# Altium schematic symbol library OSHW_LuxonisMaster_20201223.SchLib: 185 symbols (part 6 of 10)
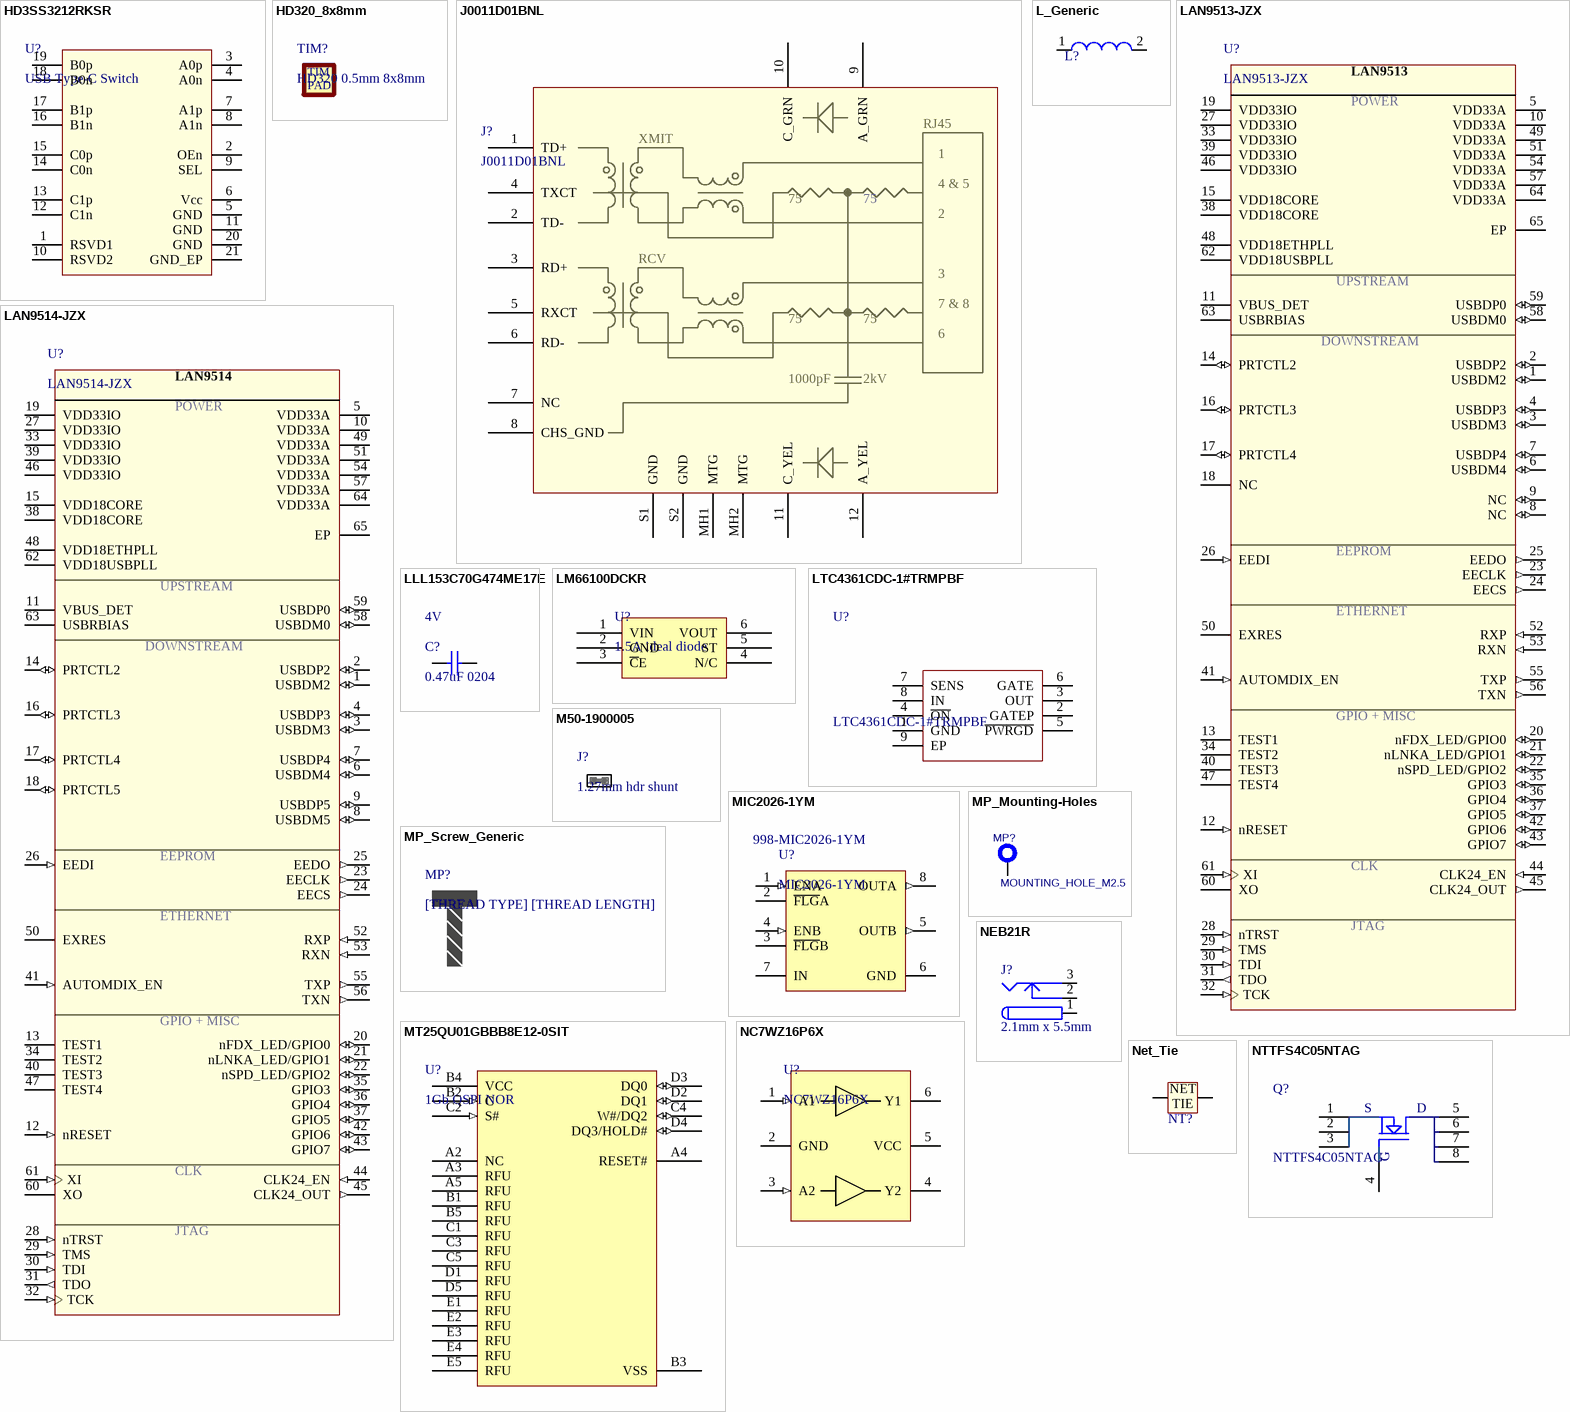
[diagram p12: symbols HD3SS3212RKSR to NTTFS4C05NTAG]

## LAN9514-JZX
designator U?
IC USB 2.0 ETHER CTRLR 64QFN Ethernet Bridge, USB to Ethernet USB 2.0, 10/100 Base-T/TX PHY USB Interface 64-QFN (9x9); Manufacturer 1: Microchip; Operating Supply Current: 288mA; Min Supply Voltage: 3V; Max Supply Voltage: 3.6V; Operating Supply Voltage: 3.3V; Data Rate: 1.5Mbps; Max Power Dissipation: 951mW; Number of Ports: 5; ComponentLink1Description: Manufacturer URL; ComponentLink2Description: Datasheet; ComponentLink2URL: http://ww1.microchip.com/downloads/en/DeviceDoc/9514.pdf; ComponentLink3URL: http://ww1.microchip.com/downloads/en/DeviceDoc/9514.pdf; ComponentLink1URL: www.microchip.com/; ComponentLink3Description: Package Specification; Supplier 1: Digi-Key; Manufacturer Part Number 1: LAN9514-JZX; Stock 1: 4064; Pricing 1: 1=5.71000, 25=4.75880, 100=4.32600 (USD); RoHS: Yes; Case/Package: QFN; Number of Pins: 64; Weight: 0.007277oz; Contact Plating: Tin,Matte; Min Operating Temperature: 0°C; Max Operating Temperature: 70°C; Packaging: Tray; Package Quantity: 260; Interface: USB; Length: 9.1mm; Height: 0.95mm; Width: 9.1mm; Radiation Hardening: No; REACH SVHC: No SVHC; Lead Free: Lead Free; ComponentLink4URL: https://datasheet.ciiva.com/30478/0900766b811a553b-30478372.pdf?src-supplier=RSComponents; ComponentLink4Description: https://datasheet.ciiva.com/30478/0900766b811a553b-30478372.pdf?src-supplier=RSComponents; ComponentLink5URL: https://datasheet.ciiva.com/16372/lan9514-jzx-16372060.pdf?src-supplier=Future+Electronics; ComponentLink5Description: https://datasheet.ciiva.com/16372/lan9514-jzx-16372060.pdf?src-supplier=Future+Electronics; ComponentLink6URL: https://datasheet.ciiva.com/22656/1686386-22656488.pdf?src-supplier=Element14; ComponentLink6Description: https://datasheet.ciiva.com/22656/1686386-22656488.pdf?src-supplier=Element14; ComponentLink7URL: https://datasheet.ciiva.com/29305/651385-da-01-en-ic-e-ctrlr-lan9514-jzx-qfn-64-9x9-mcp-29305397.pdf?src-supplier=Conrad; ComponentLink7Description: https://datasheet.ciiva.com/29305/651385-da-01-en-ic-e-ctrlr-lan9514-jzx-qfn-64-9x9-mcp-29305397.pdf?src-supplier=Conrad; Supplier Part Number 1: 638-1087-ND; Supplier 2: Mouser; Supplier Part Number 2: 886-LAN9514-JZX
footprint LAN951x-JZX (LAN9513 or LAN9514 QFN, 64-Leads, Body 9.1x9.1mm, Pitch 0.5mm, Thermal Pad 7.3x7.3mm)
pins: 1 USBDM2 (io) "Downstream USB peripheral 2 DMINUS signal.", 2 USBDP2 (io) "Downstream USB peripheral 2 DPLUS signal.", 3 USBDM3 (io) "Downstream USB peripheral 3 DMINUS signal.", 4 USBDP3 (io) "Downstream USB peripheral 3 DPLUS signal.", 5 VDD33A (power) "Refer to the LAN9514/LAN9514i reference schematics for connection information.", 6 USBDM4 (io) "Downstream USB peripheral 4 DMINUS signal.", 7 USBDP4 (io) "Downstream USB peripheral 4 DPLUS signal.", 8 USBDM5 (io) "Downstream USB peripheral 5 DMINUS signal.", 9 USBDP5 (io) "Downstream USB peripheral 5 DPLUS signal.", 10 VDD33A (power) "Refer to the LAN9514/LAN9514i reference schematics for connection information.", 11 VBUS_DET (power) "This pin detects the state of the upstream bus power. The Hub monitors VBUS_DET to determine when to assert the USBDP0 pin's internal pull-up resistor (signaling a connect event). For bus powered hubs, this pin must be tied to VDD33IO. For self powered hubs where the device is permanently attached to a host, VBUS_DET should be pulled to VDD33IO. For other self powered applications, refer to the device reference schematic for additional connection information.", 12 nRESET (in) "This active low pin allows external hardware to reset the device.", 13 TEST1 "Used for factory testing, this pin must always be left unconnected.", 14 PRTCTL2 (io) "When used as an output, this pin enables power to downstream USB peripheral 2. When used as an input, this pin is used to sample the output signal from an external current monitor for downstream USB peripheral 2. An overcurrent condition is indicated when the signal is low.", 15 VDD18CORE (power) "1.8 V power from the internal core voltage regulator. All VDD18CORE pins must be tied together for proper operation.", 16 PRTCTL3 (io) "When used as an output, this pin enables power to downstream USB peripheral 3. When used as an input, this pin is used to sample the output signal from an external current monitor for downstream USB peripheral 3. An overcurrent condition is indicated when the signal is low.", 17 PRTCTL4 (io) "When used as an output, this pin enables power to downstream USB peripheral 4. When used as an input, this pin is used to sample the output signal from an external current monitor for downstream USB peripheral 4. An overcurrent condition is indicated when the signal is low.", 18 PRTCTL5 (io) "When used as an output, this pin enables power to downstream USB peripheral 5. When used as an input, this pin is used to sample the output signal from an external current monitor for downstream USB peripheral 5. An overcurrent condition is indicated when the signal is low.", 19 VDD33IO (power) "3.3V Power Supply for I/O Pins. Refer to the LAN9514/LAN9514i reference schematics for connection information.", 20 nFDX_LED/GPIO0 (io), 21 nLNKA_LED/GPIO1 (io), 22 nSPD_LED/GPIO2 (io), 23 EECLK (out) "This pin drives the EEPROM clock of the external EEPROM.", 24 EECS (out) "This pin drives the chip select output of the external EEPROM.", 25 EEDO (out) "This pin drives the EEDI input of the external EEPROM.", 26 EEDI (in) "This pin is driven by the EEDO output of the external EEPROM.", 27 VDD33IO (power) "3.3V Power Supply for I/O Pins. Refer to the LAN9514/LAN9514i reference schematics for connection information.", 28 nTRST (in) "This active low pin functions as the JTAG test port reset input.", 29 TMS (in) "This pin functions as the JTAG test mode select.", 30 TDI (in) "This pin functions as the JTAG data input.", 31 TDO (out) "This pin functions as the JTAG data output.", 32 TCK (in) "This pin functions as the JTAG test clock.", 33 VDD33IO (power) "3.3V Power Supply for I/O Pins. Refer to the LAN9514/LAN9514i reference schematics for connection information.", 34 TEST2 "Used for factory testing, this pin must always be connected to VSS for proper operation.", 35 GPIO3 (io) "This General Purpose I/O pin is fully programmable as either a push-pull output, an open-drain output, or a Schmitt-triggered input.", 36 GPIO4 (io) "This General Purpose I/O pin is fully programmable as either a push-pull output, an open-drain output, or a Schmitt-triggered input.", 37 GPIO5 (io) "This General Purpose I/O pin is fully programmable as either a push-pull output, an open-drain output, or a Schmitt-triggered input.", 38 VDD18CORE (power) "1.8 V power from the internal core voltage regulator. All VDD18CORE pins must be tied together for proper operation. Refer to the LAN9514/LAN9514i referenceschematics for connection information.", 39 VDD33IO (power) "3.3V Power Supply for I/O Pins. Refer to the LAN9514/LAN9514i reference schematics for connection information.", 40 TEST3 "Used for factory testing, this pin must always be connected to VDD33IO for proper operation.", 41 AUTOMDIX_EN (in) "Determines the default Auto-MDIX setting.", 42 GPIO6 (io) "This General Purpose I/O pin is fully programmable as either a push-pull output, an open-drain output, or a Schmitt-triggered input.", 43 GPIO7 (io) "This General Purpose I/O pin is fully programmable as either a push-pull output, an open-drain output, or a Schmitt-triggered input.", 44 CLK24_EN (in) "This pin enables the generation of the 24 MHz clock on the CLK_24_OUT pin.", 45 CLK24_OUT (out) "This pin outputs a 24 MHz clock that can be used a reference clock for a partner hub.", 46 VDD33IO (power) "3.3V Power Supply for I/O Pins. Refer to the LAN9514/LAN9514i reference schematics for connection information.", 47 TEST4 "Used for factory testing, this pin must always be left unconnected.", 48 VDD18ETHPLL (power) "Refer to the LAN9514/LAN9514i reference schematics for additional connection information.", 49 VDD33A (power) "Refer to the LAN9514/LAN9514i reference schematics for connection information.", 50 EXRES "Used for the internal bias circuits. Connect to an external 12.4K 1.0% resistor to ground.", 51 VDD33A (power) "Refer to the LAN9514/LAN9514i reference schematics for connection information.", 52 RXP (in) "Positive input of the Ethernet receiver. The receive data inputs may be swapped internally with transmit data outputs when Auto-MDIX is enabled.", 53 RXN (in) "Negative input of the Ethernet receiver. The receive data inputs may be swapped internally with transmit data outputs when Auto-MDIX is enabled.", 54 VDD33A (power) "Refer to the LAN9514/LAN9514i reference schematics for connection information.", 55 TXP (out) "Positive output of the Ethernet transmitter. The transmit data outputs may be swapped internally with receive data inputs when Auto-MDIX isenabled.", 56 TXN (out) "Negative output of the Ethernet transmitter. The transmit data outputs may be swapped internally with receive data inputs when Auto-MDIX is enabled.", 57 VDD33A (power) "Refer to the LAN9514/LAN9514i reference schematics for connection information.", 58 USBDM0 (io) "Upstream USB DMINUS signal.", 59 USBDP0 (io) "Upstream USB DPLUS signal.", 60 XO "External 25 MHz crystal output.", 61 XI (in) "External 25 MHz crystal input.", 62 VDD18USBPLL (power) "Refer to the LAN9514/LAN9514i reference schematics for additional connection information.", 63 USBRBIAS "Used for setting HS transmit current level and onchip termination impedance. Connect to an external 12K 1.0% resistor to ground.", 64 VDD33A (power) "Refer to the LAN9514/LAN9514i reference schematics for connection information.", 65 EP (power) "Exposed pad must be connected to VSS."
text: LAN9514; POWER; UPSTREAM; DOWNSTREAM; EEPROM; ETHERNET; GPIO + MISC; CLK; JTAG

## LLL153C70G474ME17E
designator C?, comment 0.47uF 0204  Voltage Rating: 4V
CAP CER 0.47UF 4V X7S 0204; Manufacturer 1: Murata; Manufacturer Part Number 1: LLL153C70G474ME17E; Capacitance: 470nF; Tolerance: 20%; Supplier 1: Digi-Key; Stock 1: 249682; Pricing 1: 1=0.20000, 10=0.14200, 100=0.06660, 500=0.04670, 1000=0.03866, 2500=0.03598, 5000=0.03292 (USD); RoHS: Yes; Case/Package: 0204; Case Code (Metric): 0510; Case Code (Imperial): 0204; Min Operating Temperature: -55°C; Max Operating Temperature: 125°C; Packaging: Cut Tape; Dielectric: X7S; Voltage Rating (DC): 4V; Length: 0.5mm; Depth: 1mm; REACH SVHC: No SVHC; Lead Free: Lead Free; ComponentLink1URL: https://datasheet.ciiva.com/7719/1666664-7719213.pdf?src-supplier=Element14; ComponentLink1Description: https://datasheet.ciiva.com/7719/1666664-7719213.pdf?src-supplier=Element14; Supplier 2: Mouser; Supplier Part Number 2: 81-LLL153C70G474ME7E; Supplier Part Number 1: 490-14474-1-ND
footprint CAPC0204(0510)35_L (Chip Capacitor, 2-Leads, Body 0.52x1.00mm, IPC High Density)
footprint CAPC0204(0510)35_M (Chip Capacitor, 2-Leads, Body 0.52x1.00mm, IPC Low Density)
footprint CAPC0204(0510)35_N (Chip Capacitor, 2-Leads, Body 0.52x1.00mm, IPC Medium Density)
pins: 1, 2

## LM66100DCKR
designator U?, comment 1.5A ideal diode
IC OR CTRLR IDEAL DIODE SC70-6; Manufacturer 1: Texas Instruments; Manufacturer Part Number 1: LM66100DCKR; Supplier 1: Digi-Key; RoHS: No; Category: Integrated Circuits (ICs); Stock 1: 8042; Pricing 1: 1=0.41000, 10=0.32900, 25=0.30120, 100=0.20300, 250=0.16800, 500=0.15400, 1000=0.11550 (USD); Supplier 2: Digi-Key; Supplier 3: Mouser; Supplier 4: Arrow; Supplier Part Number 1: 296-53541-1-ND; Supplier Part Number 3: 595-LM66100DCKR; Supplier Part Number 2: 296-53541-2-ND; Supplier Part Number 4: LM66100DCKR
footprint LM66100DCKR (SOT23, 6-Leads, Body 2.00x2.10mm, Pitch 0.65mm, IPC Medium Density)
pins: 1 VIN "Device input", 2 GND "Device ground", 3 ~{C}E "Active-low chip enable. Can be connected to VOUT for reverse current protection. Do not", 4 N/C "Not internally connected, can be tied to GND or left floating.", 5 ST "Active-low open-drain output, pulled low when the chip is disabled. Hi-Z when the chip is", 6 VOUT "Device output"

## LTC4361CDC-1#TRMPBF
designator U?
IC OVERVOLTAGE/CUR PROT 8-DFN Handheld/Mobile Devices PMIC 8-DFN (2x2); Manufacturer 1: Analog Devices / Linear Technology; Min Supply Voltage: 2.5V; Max Supply Voltage: 5.5V; Supplier 1: Digi-Key; Manufacturer Part Number 1: LTC4361CDC-1#TRMPBF; Stock 1: 4205; Pricing 1: 1=3.62000, 25=2.40680, 100=1.99000, 250=1.89048 (USD); RoHS: Yes; Case/Package: DFN; Number of Pins: 8; Min Operating Temperature: 0°C; Max Operating Temperature: 70°C; Package Quantity: 1; Packaging: Tape and Reel; Length: 2mm; REACH SVHC: No SVHC; ComponentLink1URL: https://datasheet.ciiva.com/1569/1441932-1569140.pdf?src-supplier=Farnell; ComponentLink1Description: https://datasheet.ciiva.com/1569/1441932-1569140.pdf?src-supplier=Farnell; ComponentLink2URL: https://datasheet.ciiva.com/1569/1441932-1569141.pdf?src-supplier=Farnell; ComponentLink2Description: https://datasheet.ciiva.com/1569/1441932-1569141.pdf?src-supplier=Farnell; ComponentLink3URL: https://datasheet.ciiva.com/1941/29266-1941719.pdf?src-supplier=Digi-Key; ComponentLink3Description: https://datasheet.ciiva.com/1941/29266-1941719.pdf?src-supplier=Digi-Key; ComponentLink4URL: https://datasheet.ciiva.com/1511/1692593-1511384.pdf?src-supplier=Element14; ComponentLink4Description: https://datasheet.ciiva.com/1511/1692593-1511384.pdf?src-supplier=Element14; ComponentLink5URL: https://datasheet.ciiva.com/1941/29266-1941720.pdf?src-supplier=Digi-Key; ComponentLink5Description: https://datasheet.ciiva.com/1941/29266-1941720.pdf?src-supplier=Digi-Key; ComponentLink6URL: https://datasheet.ciiva.com/1941/29266-1941721.pdf?src-supplier=Digi-Key; ComponentLink6Description: https://datasheet.ciiva.com/1941/29266-1941721.pdf?src-supplier=Digi-Key; Supplier Part Number 1: LTC4361CDC-1#TRMPBFCT-ND
footprint LTC4361CDC-1#TRMPBF (8-WFDFN Exposed Pad)
pins: 1 GND, 2 GATEP, 3 OUT, 4 ~{ON}, 5 ~{PWRGD}, 6 GATE, 7 SENS, 8 IN, 9 EP

## M50-1900005
designator J?, comment 1.27mm hdr shunt
CONN SHUNT 1.27MM BLACK; Manufacturer 1: Harwin; Manufacturer Part Number 1: M50-1900005; Number of Positions: 2; Number of Contacts: 3; Max Current Rating: 1A; Contact Resistance: 20mR; Insulation Resistance: 1R; Voltage Rating: 500V; RoHS: Yes; Contact Plating: Gold; Contact Material: Copper Alloy; Color: Black; Housing Material: Nylon; Housing Color: Black; Min Operating Temperature: -40°C; Max Operating Temperature: 105°C; Package Quantity: 1000; Packaging: Bulk; Number of Rows: 1; Orientation: Straight; Length: 2.5mm; Height: 0.118inch; Radiation Hardening: No; REACH SVHC: No SVHC; Flammability Rating: UL94 V-0; ComponentLink1URL: https://datasheet.ciiva.com/767/m50-19x-767925.pdf?src-supplier=Digi-Key; ComponentLink1Description: https://datasheet.ciiva.com/767/m50-19x-767925.pdf?src-supplier=Digi-Key; ComponentLink2URL: https://datasheet.ciiva.com/1412/1836978-1412124.pdf?src-supplier=Element14; ComponentLink2Description: https://datasheet.ciiva.com/1412/1836978-1412124.pdf?src-supplier=Element14; Supplier 1: Digi-Key; Stock 1: 19754; Pricing 1: 1=0.33000, 10=0.30800, 25=0.26400, 50=0.22440, 100=0.21560, 250=0.19360, 500=0.18480, 1000=0.15400, 2500=0.14080 (USD); Current Rating: 1A; Pitch: 1.27mm; Depth: 3mm; Supplier Part Number 1: 952-1730-ND
footprint M50-1900005 (Shunt for 1.27mm headers)

## MIC2026-1YM
designator U?  Supplier Part Number 2: 998-MIC2026-1YM
IC PW DIST SW DUAL 8SOIC Power Switch/Driver 1:2 N-Channel 500mA 8-SOIC; Manufacturer: Micrel; Manufacturer 1: Microchip Micrel; Supply Voltage - Max: 5.5V; Switch Configuration: USBSwitch; Off Time (Max): 100us; On Resistance (Max): 140mOhms; Supply Current: 20uA; Supply Voltage - Min: 2.7V; On Time (Max): 5ms; Number of Outputs: 2; Interface: On/Off; On-State Resistance: 90mR; Fault Protection: Over Temperature; Output Configuration: High Side; Nominal Supply Current: 5uA; Current Rating: 1.25A; Drain to Source Resistance: 140mR; Number of Switches: Dual; On Resistance - Max: 140mOhms; Mounting Technology: SurfaceMount; RoHS: Details; Package / Case: SOIC-8; Package Description: 8-Pin Small Outline Integrated Circuit, Body 4.89 x 3.9 mm, Pitch 1.27 mm; Factory Pack Quantity: 95; Datasheet Version: 06/2010; Product Category: USBSwitchICs; Series: MIC2026; Manufacturer URL: http://www.microchip.com/; Maximum Operating Temperature: +85C; Operating Temperature Range: -40Cto+85C; Minimum Operating Temperature: -40C; Package Reference: SOIC-8; Datasheet URL: http://ww1.microchip.com/downloads/en/DeviceDoc/mic2026.pdf; Off Time - Max: 100us; On Time - Max: 5ms; Packaging: Tube; Mounting Style: SMD/SMT; Brand: Micrel; Supplier 1: Digi-Key; Manufacturer Part Number 1: MIC2026-1YM; Stock 1: 3907; Pricing 1: 1=1.03000, 25=0.86520, 100=0.78280 (USD); Mount: Surface Mount; Case/Package: SOIC; Number of Pins: 8; Min Operating Temperature: -40°C; Max Operating Temperature: 85°C; Max Output Current: 500mA; Package Quantity: 95; Max Input Voltage: 5.5V; Min Input Voltage: 2.7V; Min Supply Voltage: 2.7V; Max Supply Voltage: 5.5V; Turn-Off Delay Time: 100us; Turn-On Delay Time: 5ms; Number of Channels: 2; Length: 5mm; Height: 1.63mm; Width: 3.99mm; Radiation Hardening: No; REACH SVHC: No SVHC; Lead Free: Lead Free; ComponentLink1URL: https://datasheet.ciiva.com/15108/getdatasheetpartid-144496-15108418.pdf?src-supplier=Verical; ComponentLink1Description: https://datasheet.ciiva.com/15108/getdatasheetpartid-144496-15108418.pdf?src-supplier=Verical; ComponentLink2URL: https://datasheet.ciiva.com/1962/mic2026-1962595.pdf?src-supplier=Digi-Key; ComponentLink2Description: https://datasheet.ciiva.com/1962/mic2026-1962595.pdf?src-supplier=Digi-Key; ComponentLink3URL: https://datasheet.ciiva.com/1512/29485-1512781.pdf?src-supplier=Element14; ComponentLink3Description: https://datasheet.ciiva.com/1512/29485-1512781.pdf?src-supplier=Element14; Supplier Part Number 1: 576-2137-ND; Supplier 2: Mouser
footprint MIC2026-1YM (SOIC, 8-Leads, Body 5x4mm, Pitch 1.27mm, IPC High Density)
pins: 1 ENA (in) "Switch A Enable (Input): Logic-compatible, enable input. Active high (-1) or active low (-2).", 2 ~{FLG}A (oc) "Fault Flag A (Output): Active-low, open-drain output. Indicates overcurrent or thermal shutdown conditions. Overcurrent conditions must last longer than tD in order to assert FLGA.", 3 ~{FLG}B (oc) "Fault Flag B (Output): Active-low, open-drain output. Low indicates overcurrent or thermal shutdown conditions. Overcurrent conditions must last longer than tD in order to assert FLGB.", 4 ENB (in) "Switch B Enable (Input): Logic-compatible enable input. Active-high (-1) or active-low (-2).", 5 OUTB (out) "Switch B (Output)", 6 GND (power) "Ground", 7 IN (power) "Input: Switch and logic supply input.", 8 OUTA (out) "Switch A (Output)"

## MP_Mounting-Holes
designator MP?  (no BOM)
=CurrentFootprint; B - Value: Not a Part; A - Level: 0
footprint 9774030243R MATING PAD (Mating pad for 9774030243R Standoff)
footprint MOUNTING_HOLE_M1.4 (M1.4 screw footprint. 1.5mm dia hole, 3mm dia ring,)
footprint MOUNTING_HOLE_M2.5 (2.7mm dia hole, 5.5mm dia ring)
footprint MOUNTING_HOLE_M2 (M1.4 screw footprint. 2.1 mm dia hole, 4.75mm dia ring,)
pins: 1

## MP_Screw_Generic
designator MP?, comment [THREAD TYPE] [THREAD LENGTH]  (mechanical)
MP SCREW

## MT25QU01GBBB8E12-0SIT
designator U?, comment 1Gb QSPI NOR
IC FLASH 1G SPI 166MHZ TBGA FLASH - NOR Memory IC 1Gb (128M x 8) SPI 166MHz  24-T-PBGA (6x8); Manufacturer 1: Micron Technology; Manufacturer Part Number 1: MT25QU01GBBB8E12-0SIT; Supplier 1: Avnet; Stock 1: 135; Pricing 1: 1122=6.79000 (USD); RoHS: Yes; ComponentLink1URL: https://www.micron.com/~/media/documents/products/data-sheet/nor-flash/serial-nor/mt25q/die-rev-b/mt25q_qlkt_u_01g_bbb_0.pdf?src-supplier=Digi-Key; ComponentLink1Description: https://www.micron.com/~/media/documents/products/data-sheet/nor-flash/serial-nor/mt25q/die-rev-b/mt25q_qlkt_u_01g_bbb_0.pdf?src-supplier=Digi-Key; Supplier 2: Mouser; Supplier 3: Digi-Key; Supplier Part Number 1: MT25QU01GBBB8E12-0SIT; Supplier Part Number 3: 557-1988-1-ND; Supplier Part Number 2: 340-278809-TRAY
footprint MT25QU01GBBB8E12-0SIT (BGA, 24-Leads, Body 6.00x8.00mmx1.20mm, Pitch 1.00mm)
pins: A2 NC, A3 RFU, A4 RESET#, A5 RFU, B1 RFU, B2 C (in), B3 VSS (power), B4 VCC (power), B5 RFU, C1 RFU, C2 S# (in), C3 RFU, C4 W#/DQ2 (io), C5 RFU, D1 RFU, D2 DQ1 (io), D3 DQ0 (io), D4 DQ3/HOLD# (io), D5 RFU, E1 RFU, E2 RFU, E3 RFU, E4 RFU, E5 RFU

## NC7WZ16P6X
designator U?
IC BUF NON-INVERT 5.5V SC70-6 Buffer, Non-Inverting 2 Element 1 Bit per Element Push-Pull Output SC-88 (SC-70-6); Manufacturer 1: ON Semiconductor / Fairchild; Min Supply Voltage: 1.65V; Logic Function: Buffer,Inverting; Low Level Output Current: 32mA; High Level Output Current: -32mA; Propagation Delay: 3.8ns; Number of Elements: 2; Number of Bits per Element: 1; Max Power Dissipation: 180mW; Turn-On Delay Time: 10.6ns; Quiescent Current: 1uA; RoHS: Yes; Mount: Surface Mount; Case/Package: SC; Number of Pins: 6; Weight: 0.028g; Contact Plating: Tin,Matte; Min Operating Temperature: -40°C; Max Operating Temperature: 125°C; Max Supply Voltage: 5.5V; Packaging: Tape and Reel; Polarity: Non-Inverting; Package Quantity: 3000; Number of Input Lines: 2; Number of Output Lines: 2; Number of Channels: 2; Number of Bits: 2; Number of Inputs: 2; Number of Outputs: 2; Number of Circuits: 2; Termination: SMD/SMT; Length: 2mm; Height: 1mm; Width: 1.25mm; Radiation Hardening: No; Lead Free: Lead Free; REACH SVHC: No SVHC; ComponentLink1URL: https://datasheet.ciiva.com/5701/1725615-5701889.pdf?src-supplier=Farnell; ComponentLink1Description: https://datasheet.ciiva.com/5701/1725615-5701889.pdf?src-supplier=Farnell; ComponentLink2URL: https://datasheet.ciiva.com/15094/getdatasheetpartid-92041-15094657.pdf?src-supplier=Verical; ComponentLink2Description: https://datasheet.ciiva.com/15094/getdatasheetpartid-92041-15094657.pdf?src-supplier=Verical; ComponentLink3URL: https://datasheet.ciiva.com/27051/1028128-27051265.pdf?src-supplier=Jameco; ComponentLink3Description: https://datasheet.ciiva.com/27051/1028128-27051265.pdf?src-supplier=Jameco; ComponentLink4URL: https://datasheet.ciiva.com/8260/nc7wz16-8260101.pdf?src-supplier=Avnet; ComponentLink4Description: https://datasheet.ciiva.com/8260/nc7wz16-8260101.pdf?src-supplier=Avnet; ComponentLink5URL: https://datasheet.ciiva.com/17332/nc7wz16-17332853.pdf?src-supplier=Future+Electronics; ComponentLink5Description: https://datasheet.ciiva.com/17332/nc7wz16-17332853.pdf?src-supplier=Future+Electronics; ComponentLink6URL: https://datasheet.ciiva.com/8260/nc7wz16-8260105.pdf?src-supplier=Avnet; ComponentLink6Description: https://datasheet.ciiva.com/8260/nc7wz16-8260105.pdf?src-supplier=Avnet; ComponentLink7URL: https://datasheet.ciiva.com/26096/nc7wz16-26096508.pdf?src-supplier=Avnet+Europe; ComponentLink7Description: https://datasheet.ciiva.com/26096/nc7wz16-26096508.pdf?src-supplier=Avnet+Europe; ComponentLink8URL: https://datasheet.ciiva.com/1832/nc7wz16-1832237.pdf?src-supplier=Digi-Key; ComponentLink8Description: https://datasheet.ciiva.com/1832/nc7wz16-1832237.pdf?src-supplier=Digi-Key; ComponentLink9URL: https://datasheet.ciiva.com/7971/1725615-7971037.pdf?src-supplier=Element14; ComponentLink9Description: https://datasheet.ciiva.com/7971/1725615-7971037.pdf?src-supplier=Element14; ComponentLink10URL: https://datasheet.ciiva.com/1832/nc7wz16-1832238.pdf?src-supplier=Digi-Key; ComponentLink10Description: https://datasheet.ciiva.com/1832/nc7wz16-1832238.pdf?src-supplier=Digi-Key; ComponentLink11URL: https://datasheet.ciiva.com/1832/nc7wz16-1832239.pdf?src-supplier=Digi-Key; ComponentLink11Description: https://datasheet.ciiva.com/1832/nc7wz16-1832239.pdf?src-supplier=Digi-Key; Supplier 1: Digi-Key; Manufacturer Part Number 1: NC7WZ16P6X; Stock 1: 89814; Pricing 1: 1=0.44000, 10=0.32600, 100=0.18480, 500=0.12238, 1000=0.09382 (USD); Supplier Part Number 1: NC7WZ16P6XCT-ND
footprint NC7WZ16P6X (NC7WZ07P6X - SOT23, 6-Leads, Body 2.00x2.10mm, Pitch 0.65mm, IPC Medium Density)
pins: 1 A1 (in) "Input", 2 GND (power) "Ground", 3 A2 (in) "Input", 4 Y2 (oc) "Output", 5 VCC (power) "Supply Voltage", 6 Y1 (oc) "Output"

## NEB21R
designator J?, comment 2.1mm x 5.5mm
CONN POWER PIN 2 POS RA PTH Barrel jack 2.1mm x 5.5mm; Manufacturer 1: Lumberg; Manufacturer Part Number 1: NEB21R; Voltage Rating: 12V; Current Rating: 3A; Connector Type: Socket,Power,Standard; Number of Ports: 1; Gender: Receptacle; Insulation Resistance: 100MR; Inside Diameter: 6mm; Supplier 1: Newark; Stock 1: 56; Pricing 1: 1=0.86400, 25=0.82100, 50=0.78300, 100=0.72900, 250=0.68600 (USD); RoHS: Yes; Mount: Through Hole; Number of Pins: 2; Contact Material: Brass; Contact Plating: Nickel; Number of Terminals: 3; Color: Black; Housing Material: Polycarbonate; Min Operating Temperature: -20°C; Max Operating Temperature: 70°C; Max Current Rating: 3A; Packaging: Bulk; Voltage Rating (DC): 12V; Termination: Solder; Max Voltage Rating (DC): 12V; Orientation: Right Angle; Voltage Rating (AC): 12V; Length: 9mm; Depth: 14.5mm; REACH SVHC: No SVHC; ComponentLink1URL: https://datasheet.ciiva.com/11720/0900766b805694d6-11720273.pdf?src-supplier=RSComponents; ComponentLink1Description: https://datasheet.ciiva.com/11720/0900766b805694d6-11720273.pdf?src-supplier=RSComponents; ComponentLink2URL: https://datasheet.ciiva.com/1115/28897-1115898.pdf?src-supplier=Newark; ComponentLink2Description: https://datasheet.ciiva.com/1115/28897-1115898.pdf?src-supplier=Newark; ComponentLink3URL: https://datasheet.ciiva.com/8066/1700582-8066298.pdf?src-supplier=Element14; ComponentLink3Description: https://datasheet.ciiva.com/8066/1700582-8066298.pdf?src-supplier=Element14; ComponentLink4URL: https://datasheet.ciiva.com/29365/738882-da-01-ml-netzger-einbaukuppl-neb-21-r-de-en-fr-29365351.pdf?src-supplier=Conrad; ComponentLink4Description: https://datasheet.ciiva.com/29365/738882-da-01-ml-netzger-einbaukuppl-neb-21-r-de-en-fr-29365351.pdf?src-supplier=Conrad; Supplier Part Number 1: 97K6458
footprint NEB21R (2.1mm ID, 5.5mm OD, 3pin, 2contact, PJ-002AH or NEB21R)
pins: 1 (power), 2 (power), 3 (power)

## Net_Tie
designator NT?, comment NET TIE  (value not drawn)  (net tie, no BOM)
footprint NET_TIE_TOP
pins: 1, 2
text: NET; TIE

## NTTFS4C05NTAG
designator Q?
MOSFET N-CH 30V 75A U8FL; Manufacturer 1: ON Semiconductor; Continuous Drain Current (ID): 19.4A; Rds On Max: 3.6mR; Input Capacitance: 1.988nF; Max Power Dissipation: 820mW; Gate to Source Voltage (Vgs): 20V; Element Configuration: Single; Number of Elements: 1; ComponentLink1URL: https://datasheet.ciiva.com/13043/nttfs4c05n-d-13043862.pdf?src-supplier=Mouser; ComponentLink1Description: https://datasheet.ciiva.com/13043/nttfs4c05n-d-13043862.pdf?src-supplier=Mouser; Supplier 1: Digi-Key; Supplier 2: Newark; Supplier 3: Mouser; Manufacturer Part Number 1: NTTFS4C05NTAG; Stock 1: 4446; Pricing 1: 1=0.63000, 10=0.53800, 100=0.37280, 500=0.29106 (USD); RoHS: Yes; Number of Pins: 8; Min Operating Temperature: -55°C; Max Operating Temperature: 150°C; Packaging: Tape and Reel; Drain to Source Voltage (Vdss): 30V; Lead Free: Lead Free; Supplier Part Number 1: NTTFS4C05NTAGOSCT-ND; Supplier Part Number 2: 02AC3813; Supplier Part Number 3: 863-NTTFS4C05NTAG
footprint NTTFS4C05NTAG (8-WDFN (3.3x3.3))
pins: 1 S, 2 S, 3 S, 4 G, 5 D, 6 D, 7 D, 8 D

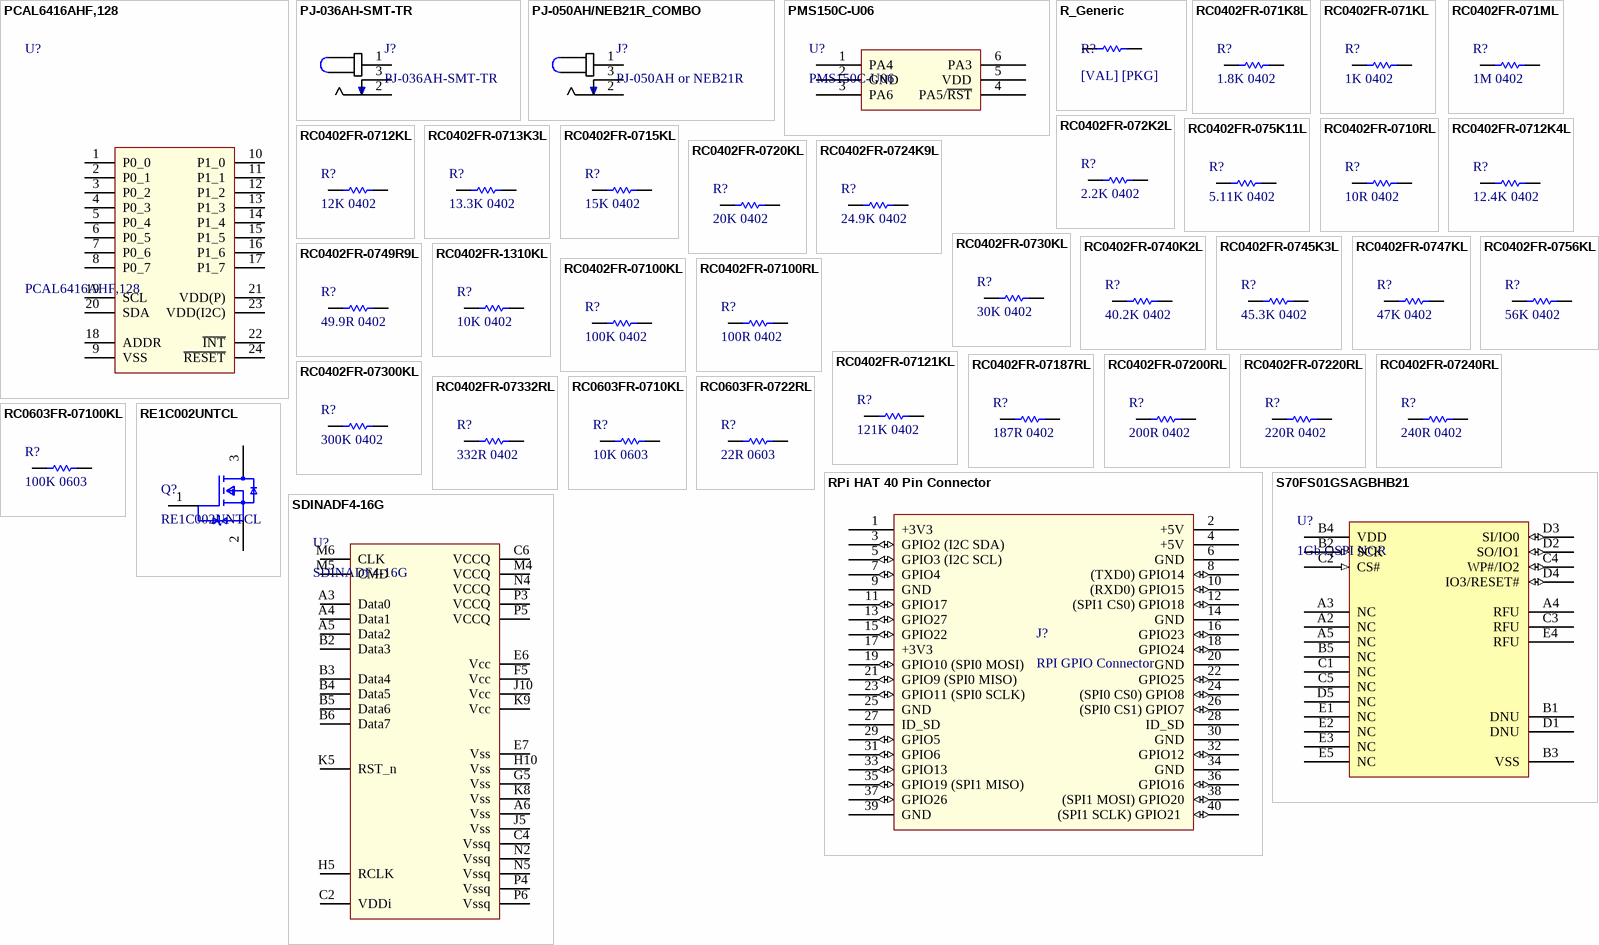
[diagram p5: symbols PCAL6416AHF,128 to SDINADF4-16G]

## PCAL6416AHF,128
designator U?
IC I/O EXPANDER 16BIT 24HWQFN I/O Expander 16 I²C, SMBus 400kHz 24-HWQFN (4x4); Manufacturer 1: NXP Semiconductors; Min Supply Voltage: 1.65V; Max Supply Voltage: 5.5V; Interface: I2C; Output Current: 25mA; Number of I/Os: 16; Max Frequency: 100kHz; Supplier 1: Digi-Key; Manufacturer Part Number 1: PCAL6416AHF,128; Stock 1: 30489; Pricing 1: 1=1.20000, 10=1.07300, 100=0.83690, 500=0.69134, 1000=0.54579 (USD); RoHS: Yes; Mount: Surface Mount; Number of Pins: 24; Contact Plating: Gold; Min Operating Temperature: -40°C; Max Operating Temperature: 85°C; Packaging: Tape and Reel; Package Quantity: 1; Frequency: 400kHz; REACH SVHC: No SVHC; Lead Free: Lead Free; ComponentLink1URL: https://datasheet.ciiva.com/6633/pcal6416a-6633094.pdf?src-supplier=Digi-Key; ComponentLink1Description: https://datasheet.ciiva.com/6633/pcal6416a-6633094.pdf?src-supplier=Digi-Key; ComponentLink2URL: https://datasheet.ciiva.com/46433/1845292-46433847.pdf?src-supplier=Element14; ComponentLink2Description: https://datasheet.ciiva.com/46433/1845292-46433847.pdf?src-supplier=Element14; ComponentLink3URL: https://datasheet.ciiva.com/6633/pcal6416a-6633096.pdf?src-supplier=Digi-Key; ComponentLink3Description: https://datasheet.ciiva.com/6633/pcal6416a-6633096.pdf?src-supplier=Digi-Key; Supplier Part Number 1: 568-9946-1-ND
pins: 1 P0_0, 2 P0_1, 3 P0_2, 4 P0_3, 5 P0_4, 6 P0_5, 7 P0_6, 8 P0_7, 9 VSS, 10 P1_0, 11 P1_1, 12 P1_2, 13 P1_3, 14 P1_4, 15 P1_5, 16 P1_6, 17 P1_7, 18 ADDR, 19 SCL, 20 SDA, 21 VDD(P), 22 ~{INT}, 23 VDD(I2C), 24 ~{RESET}

## PJ-036AH-SMT-TR
designator J?
CONN PWR JACK 2X5.5MM SOLDER; Manufacturer 1: CUI; Current Rating: 5A; Gender: Male; Shielding: Unshielded; Voltage Rating: 24V; Insulation Resistance: 100MR; Number of Conductors: 2; Supplier 1: Digi-Key; Manufacturer Part Number 1: PJ-036AH-SMT-TR; Stock 1: 14194; Pricing 1: 1=1.39000, 10=1.26100, 25=1.18400, 50=1.13260, 100=1.08110 (USD); RoHS: Yes; Mount: Surface Mount; Case/Package: SMD/SMT; Color: Black; Contact Material: Brass; Contact Plating: Silver; Housing Color: Black; Housing Material: Thermoplastic; Min Operating Temperature: -25°C; Max Operating Temperature: 85°C; Package Quantity: 1000; Termination: SMD/SMT; Connector Type: Jack; Contact Gender: Male; Packaging: Tape and Reel; Orientation: Horizontal; Lead Free: Lead Free; Flammability Rating: UL94 V-0; ComponentLink1URL: http://www.mouser.com/ds/2/670/pj-036ah-smt-516063.pdf?src-supplier=Mouser; ComponentLink1Description: http://www.mouser.com/ds/2/670/pj-036ah-smt-516063.pdf?src-supplier=Mouser; ComponentLink2URL: http://www.cui.com/Product/Resource/FuturePDF/PJ-036AH-SMT.pdf?src-supplier=Future+Electronics; ComponentLink2Description: http://www.cui.com/Product/Resource/FuturePDF/PJ-036AH-SMT.pdf?src-supplier=Future+Electronics; ComponentLink3URL: https://www.cui.com/product/resource/digikeypdf/pj-036ah-smt-tr.pdf?src-supplier=Digi-Key; ComponentLink3Description: https://www.cui.com/product/resource/digikeypdf/pj-036ah-smt-tr.pdf?src-supplier=Digi-Key; Supplier 2: Mouser; Manufacturer 2: CUI; Manufacturer Part Number 2: PJ-036AH-SMT-TR; Stock 2: 2079; Pricing 2: 1=1.36000, 10=1.20000, 25=1.13000, 50=1.08000, 100=1.03000, 200=0.93600, 400=0.84300, 1000=0.74900, 2400=0.67900, 10000=0.67900 (USD); ComponentLink4URL: http://datasheet.octopart.com/PJ-036AH-SMT-TR-CUI-datasheet-100142517.pdf?src-supplier=CUI; ComponentLink4Description: http://datasheet.octopart.com/PJ-036AH-SMT-TR-CUI-datasheet-100142517.pdf?src-supplier=CUI; ComponentLink5URL: http://datasheet.octopart.com/PJ-036AH-SMT-TR-CUI-datasheet-103764787.pdf?src-supplier=CUI; ComponentLink5Description: http://datasheet.octopart.com/PJ-036AH-SMT-TR-CUI-datasheet-103764787.pdf?src-supplier=CUI; ComponentLink6URL: http://datasheet.octopart.com/PJ-036AH-SMT-TR-CUI-datasheet-103110338.pdf?src-supplier=Electro+Sonic; ComponentLink6Description: http://datasheet.octopart.com/PJ-036AH-SMT-TR-CUI-datasheet-103110338.pdf?src-supplier=Electro+Sonic; ComponentLink7URL: http://datasheet.octopart.com/PJ-036AH-SMT-TR-CUI-datasheet-13308170.pdf?src-supplier=Future+Electronics; ComponentLink7Description: http://datasheet.octopart.com/PJ-036AH-SMT-TR-CUI-datasheet-13308170.pdf?src-supplier=Future+Electronics; ComponentLink8URL: http://datasheet.octopart.com/PJ-036AH-SMT-TR-CUI-datasheet-98439734.pdf?src-supplier=Future+Electronics; ComponentLink8Description: http://datasheet.octopart.com/PJ-036AH-SMT-TR-CUI-datasheet-98439734.pdf?src-supplier=Future+Electronics; ComponentLink9URL: http://datasheet.octopart.com/PJ-036AH-SMT-TR-CUI-datasheet-100337374.pdf?src-supplier=Future+Electronics; ComponentLink9Description: http://datasheet.octopart.com/PJ-036AH-SMT-TR-CUI-datasheet-100337374.pdf?src-supplier=Future+Electronics; ComponentLink10URL: http://datasheet.octopart.com/PJ-036AH-SMT-TR-CUI-datasheet-102985011.pdf?src-supplier=Future+Electronics; ComponentLink10Description: http://datasheet.octopart.com/PJ-036AH-SMT-TR-CUI-datasheet-102985011.pdf?src-supplier=Future+Electronics; Supplier Part Number 1: CP-036AHPJCT-ND; Supplier Part Number 2: 490-PJ-036AH-SMT-TR
footprint PJ-036AH-SMT (2.0 x 6.3 mm, 5.0 A, Horizontal, Surface Mount (SMT), Dc Power Jack Connector)
pins: 1, 2, 3

## PJ-050AH/NEB21R_COMBO
designator J?, comment PJ-050AH or NEB21R
CONN POWER PIN 2 POS RA PTH Barrel jack 2.1mm x 5.5mm combo footprint; Manufacturer 1: CUI; Gender: Male; Shielding: Unshielded; Current Rating: 5A; Voltage Rating: 24V; Insulation Resistance: 100MR; Number of Conductors: 2; Max Current Rating: 3A; Voltage Rating (DC): 12V; Number of Ports: 1; Inside Diameter: 6mm; Supplier 1: Mouser; Manufacturer Part Number 1: PJ-050AH; Stock 1: 2665; Pricing 1: 1=0.78000, 10=0.68800, 50=0.62100, 100=0.59400, 1000=0.43200, 10000=0.39100 (USD); Mount: Through Hole; Color: Black; Contact Material: Copper; Contact Plating: Nickel; Housing Color: Black; Housing Material: Thermoplastic; Min Operating Temperature: -25°C; Max Operating Temperature: 85°C; Package Quantity: 500; Termination: Solder; Connector Type: Jack; Contact Gender: Male; Orientation: Horizontal; Lead Free: Lead Free; Flammability Rating: UL94 V-0; ComponentLink1URL: http://www.mouser.com/ds/2/670/PJ-050AH-524150.pdf?src-supplier=Mouser; ComponentLink1Description: http://www.mouser.com/ds/2/670/PJ-050AH-524150.pdf?src-supplier=Mouser; ComponentLink2URL: https://www.cui.com/product/resource/digikeypdf/pj-050ah.pdf?src-supplier=Digi-Key; ComponentLink2Description: https://www.cui.com/product/resource/digikeypdf/pj-050ah.pdf?src-supplier=Digi-Key; ComponentLink3URL: http://datasheet.octopart.com/PJ-050AH-CUI-datasheet-15696426.pdf?src-supplier=CUI; ComponentLink3Description: http://datasheet.octopart.com/PJ-050AH-CUI-datasheet-15696426.pdf?src-supplier=CUI; ComponentLink4URL: http://datasheet.octopart.com/PJ-050AH-CUI-datasheet-62089837.pdf?src-supplier=CUI; ComponentLink4Description: http://datasheet.octopart.com/PJ-050AH-CUI-datasheet-62089837.pdf?src-supplier=CUI; ComponentLink5URL: http://datasheet.octopart.com/PJ-050AH-CUI-datasheet-65972796.pdf?src-supplier=CUI; ComponentLink5Description: http://datasheet.octopart.com/PJ-050AH-CUI-datasheet-65972796.pdf?src-supplier=CUI; ComponentLink6URL: http://datasheet.octopart.com/PJ-050AH-CUI-datasheet-103766550.pdf?src-supplier=CUI; ComponentLink6Description: http://datasheet.octopart.com/PJ-050AH-CUI-datasheet-103766550.pdf?src-supplier=CUI; ComponentLink7URL: http://datasheet.octopart.com/PJ-050AH-CUI-datasheet-103111417.pdf?src-supplier=Electro+Sonic; ComponentLink7Description: http://datasheet.octopart.com/PJ-050AH-CUI-datasheet-103111417.pdf?src-supplier=Electro+Sonic; ComponentLink8URL: http://datasheet.octopart.com/PJ-050AH-CUI-datasheet-34390405.pdf?src-supplier=Future+Electronics; ComponentLink8Description: http://datasheet.octopart.com/PJ-050AH-CUI-datasheet-34390405.pdf?src-supplier=Future+Electronics; ComponentLink9URL: http://datasheet.octopart.com/PJ-050AH-CUI-datasheet-62073522.pdf?src-supplier=Future+Electronics; ComponentLink9Description: http://datasheet.octopart.com/PJ-050AH-CUI-datasheet-62073522.pdf?src-supplier=Future+Electronics; ComponentLink10URL: http://datasheet.octopart.com/PJ-050AH-CUI-datasheet-102985732.pdf?src-supplier=Future+Electronics; ComponentLink10Description: http://datasheet.octopart.com/PJ-050AH-CUI-datasheet-102985732.pdf?src-supplier=Future+Electronics; Supplier 2: Newark; Manufacturer 2: Lumberg; Manufacturer Part Number 2: NEB 21 R; Stock 2: 56; Pricing 2: 1=0.86400, 25=0.82100, 50=0.78300, 100=0.72900, 250=0.68600 (USD); Number of Pins: 2; Number of Terminals: 3; Packaging: Bulk; Max Voltage Rating (DC): 12V; Voltage Rating (AC): 12V; Length: 9mm; Depth: 14.5mm; REACH SVHC: No SVHC; ComponentLink11URL: https://datasheet.ciiva.com/11720/0900766b805694d6-11720273.pdf?src-supplier=RSComponents; ComponentLink11Description: https://datasheet.ciiva.com/11720/0900766b805694d6-11720273.pdf?src-supplier=RSComponents; ComponentLink12URL: https://datasheet.ciiva.com/1115/28897-1115898.pdf?src-supplier=Newark; ComponentLink12Description: https://datasheet.ciiva.com/1115/28897-1115898.pdf?src-supplier=Newark; ComponentLink13URL: https://datasheet.ciiva.com/8066/1700582-8066298.pdf?src-supplier=Element14; ComponentLink13Description: https://datasheet.ciiva.com/8066/1700582-8066298.pdf?src-supplier=Element14; ComponentLink14URL: https://datasheet.ciiva.com/29365/738882-da-01-ml-netzger-einbaukuppl-neb-21-r-de-en-fr-29365351.pdf?src-supplier=Conrad; ComponentLink14Description: https://datasheet.ciiva.com/29365/738882-da-01-ml-netzger-einbaukuppl-neb-21-r-de-en-fr-29365351.pdf?src-supplier=Conrad; ComponentLink15URL: http://datasheet.octopart.com/NEB-21-R-Lumberg-datasheet-15206778.pdf?src-supplier=Newark; ComponentLink15Description: http://datasheet.octopart.com/NEB-21-R-Lumberg-datasheet-15206778.pdf?src-supplier=Newark; ComponentLink16URL: http://datasheet.octopart.com/NEB-21-R-Lumberg-datasheet-103789672.pdf?src-supplier=Farnell; ComponentLink16Description: http://datasheet.octopart.com/NEB-21-R-Lumberg-datasheet-103789672.pdf?src-supplier=Farnell; ComponentLink17URL: http://datasheet.octopart.com/NEB-21-R-Lumberg-datasheet-136395310.pdf?src-supplier=Toby+Electronics; ComponentLink17Description: http://datasheet.octopart.com/NEB-21-R-Lumberg-datasheet-136395310.pdf?src-supplier=Toby+Electronics; Supplier Part Number 1: 490-PJ-050AH; Supplier Part Number 2: 97K6458; Supplier 3: Digi-Key; Supplier Part Number 3: CP-050AH-ND; Supplier 4: Element14; Supplier Part Number 4: 1217037
footprint PJ-050AH/NEB21R_COMBO (PJ-050AH or NEB21R 2.1mm ID, 5.5mm OD, 3pin, 2contact)
pins: 1, 2, 3

## PMS150C-U06
designator U?
Padauk 8bit OTP Type IO Controller - (SOT-23-6); Manufacturer 1: Padauk; Manufacturer Part Number 1: PMS150C-U06; Supplier 1: LCSC; Supplier Part Number 1: C168658; Package: SOT-23-6; ComponentLink1Description: https://datasheet.lcsc.com/szlcsc/1810261541_PADAUK-Tech-PMS150C-U6_C168658.pdf; ComponentLink1URL: https://datasheet.lcsc.com/szlcsc/1810261541_PADAUK-Tech-PMS150C-U6_C168658.pdf; ComponentLink2Description: LCSC product page; ComponentLink2URL: https://lcsc.com/product-detail/PADAUK_PADAUK-Tech-PMS150C-U06_C168658.html
footprint PMS150C-U06 (SOT23-6 60mil)
pins: 1 PA4, 2 GND, 3 PA6, 4 PA5/~{RST}, 5 VDD, 6 PA3

## R_Generic
designator R?, comment [VAL] [PKG]
RES Generic - TOL = 1% unless otherwise specified.
pins: 1, 2

## RC0402FR-071K8L
designator R?, comment 1.8K 0402
RES SMD 1.8K OHM 1% 1/16W 0402; Manufacturer 1: Yageo; Manufacturer Part Number 1: RC0402FR-071K8L; Resistance: 1.8kR; Temperature Coefficient: 100ppm/°C; Power Rating: 63mW; Voltage Rating: 50V; Supplier 1: Digi-Key; Stock 1: 1041820; Pricing 1: 1=0.10000, 10=0.01600, 100=0.00640, 1000=0.00289, 2500=0.00251, 5000=0.00207 (USD); RoHS: Yes; Case/Package: 0402; Case Code (Imperial): 0402; Case Code (Metric): 1005; Min Operating Temperature: -55°C; Max Operating Temperature: 155°C; Tolerance: 1%; Packaging: Tape and Reel; Composition: Thick Film; Package Quantity: 1; Termination: SMD/SMT; Number of Terminations: 2; Max Power Dissipation: 63mW; Military Standard: Not; Features: Moisture Resistant; Working Voltage: 50V; Length: 1mm; Height: 0.016inch; Width: 0.02inch; Depth: 0.5mm; Lead Free: Lead Free; REACH SVHC: Unknown; ComponentLink1URL: https://datasheet.ciiva.com/11819/0900766b80c66297-11819472.pdf?src-supplier=RSComponents; ComponentLink1Description: https://datasheet.ciiva.com/11819/0900766b80c66297-11819472.pdf?src-supplier=RSComponents; ComponentLink2URL: https://datasheet.ciiva.com/2453/pyu-r-int-thick-7-2453530.pdf?src-supplier=Digi-Key; ComponentLink2Description: https://datasheet.ciiva.com/2453/pyu-r-int-thick-7-2453530.pdf?src-supplier=Digi-Key; ComponentLink3URL: https://datasheet.ciiva.com/7849/1018594-7849868.pdf?src-supplier=Element14; ComponentLink3Description: https://datasheet.ciiva.com/7849/1018594-7849868.pdf?src-supplier=Element14; ComponentLink4URL: https://datasheet.ciiva.com/16744/pyu-rc0402-51-rohs-l-6-r-16744223.pdf?src-supplier=Future+Electronics; ComponentLink4Description: https://datasheet.ciiva.com/16744/pyu-rc0402-51-rohs-l-6-r-16744223.pdf?src-supplier=Future+Electronics; ComponentLink5URL: https://datasheet.ciiva.com/7849/1018594-7849867.pdf?src-supplier=Element14; ComponentLink5Description: https://datasheet.ciiva.com/7849/1018594-7849867.pdf?src-supplier=Element14; ComponentLink6URL: https://datasheet.ciiva.com/12667/pyu-rc0402-51-rohs-l-6-r-12667431.pdf?src-supplier=Mouser; ComponentLink6Description: https://datasheet.ciiva.com/12667/pyu-rc0402-51-rohs-l-6-r-12667431.pdf?src-supplier=Mouser; ComponentLink7URL: https://datasheet.ciiva.com/2453/pyu-r-int-thick-7-2453529.pdf?src-supplier=Digi-Key; ComponentLink7Description: https://datasheet.ciiva.com/2453/pyu-r-int-thick-7-2453529.pdf?src-supplier=Digi-Key; ComponentLink8URL: https://datasheet.ciiva.com/2453/pyu-r-int-thick-7-2453531.pdf?src-supplier=Digi-Key; ComponentLink8Description: https://datasheet.ciiva.com/2453/pyu-r-int-thick-7-2453531.pdf?src-supplier=Digi-Key; Supplier 2: Mouser; Supplier Part Number 2: 603-RC0402FR-071K8L; Supplier Part Number 1: 311-1.80KLRCT-ND
footprint RESC0402(1005)_L (Chip Resistor, Body 1.0x0.5mm, IPC High Density)
footprint RESC0402(1005)_M (Chip Resistor, Body 1.0x0.5mm, IPC Low Density)
footprint RESC0402(1005)_N (Chip Resistor, Body 1.0x0.5mm, IPC Medium Density)
pins: 1, 2

## RC0402FR-071KL
designator R?, comment 1K 0402
RES SMD 1K OHM 1% 1/16W 0402 1 kOhms ±1% 0.063W, 1/16W Chip Resistor 0402 (1005 Metric) Moisture Resistant Thick Film; Manufacturer 1: Yageo; Manufacturer Part Number 1: RC0402FR-071KL; Temperature Coefficient: 100ppm/°C; Power Rating: 62.5mW; Voltage Rating (DC): 50V; Resistance: 1kR; RoHS: Yes; Number of Pins: 2; Case Code (Imperial): 0402; Case Code (Metric): 1005; Min Operating Temperature: -55°C; Max Operating Temperature: 155°C; Packaging: Tape and Reel; Composition: Thick Film; Voltage Rating: 50V; Military Standard: Not; Termination: SMD/SMT; Length: 1mm; Height: 0.32mm; Width: 0.5mm; Depth: 0.5mm; Lead Free: Lead Free; REACH SVHC: Unknown; ComponentLink1URL: https://datasheet.ciiva.com/11819/0900766b80c66297-11819477.pdf?src-supplier=RSComponents; ComponentLink1Description: https://datasheet.ciiva.com/11819/0900766b80c66297-11819477.pdf?src-supplier=RSComponents; ComponentLink2URL: https://datasheet.ciiva.com/12666/pyu-rc0402-51-rohs-l-6-r-12666741.pdf?src-supplier=Mouser; ComponentLink2Description: https://datasheet.ciiva.com/12666/pyu-rc0402-51-rohs-l-6-r-12666741.pdf?src-supplier=Mouser; ComponentLink3URL: https://datasheet.ciiva.com/17063/pyu-rc0402-51-rohs-l-6-r-17063193.pdf?src-supplier=Future+Electronics; ComponentLink3Description: https://datasheet.ciiva.com/17063/pyu-rc0402-51-rohs-l-6-r-17063193.pdf?src-supplier=Future+Electronics; ComponentLink4URL: https://datasheet.ciiva.com/22747/1018594-22747513.pdf?src-supplier=Element14; ComponentLink4Description: https://datasheet.ciiva.com/22747/1018594-22747513.pdf?src-supplier=Element14; ComponentLink5URL: https://datasheet.ciiva.com/7849/1018594-7849869.pdf?src-supplier=Element14; ComponentLink5Description: https://datasheet.ciiva.com/7849/1018594-7849869.pdf?src-supplier=Element14; ComponentLink6URL: https://datasheet.ciiva.com/7983/1018594-7983502.pdf?src-supplier=Element14; ComponentLink6Description: https://datasheet.ciiva.com/7983/1018594-7983502.pdf?src-supplier=Element14; ComponentLink7URL: https://datasheet.ciiva.com/7849/1018594-7849871.pdf?src-supplier=Element14; ComponentLink7Description: https://datasheet.ciiva.com/7849/1018594-7849871.pdf?src-supplier=Element14; Supplier 1: Digi-Key; Stock 1: 60695854; Pricing 1: 1=0.10000, 10=0.01600, 100=0.00670, 1000=0.00301, 2500=0.00261, 5000=0.00215 (USD); Case/Package: 0402; Tolerance: 1%; Supplier Part Number 1: 311-1.00KLRCT-ND
footprint RESC0402(1005)_L (Chip Resistor, Body 1.0x0.5mm, IPC High Density)
footprint RESC0402(1005)_M (Chip Resistor, Body 1.0x0.5mm, IPC Low Density)
footprint RESC0402(1005)_N (Chip Resistor, Body 1.0x0.5mm, IPC Medium Density)
pins: 1, 2

## RC0402FR-071ML
designator R?, comment 1M 0402
RES SMD 1M OHM 1% 1/16W 0402; Manufacturer 1: Yageo; Manufacturer Part Number 1: RC0402FR-071ML; Resistance: 1MR; Temperature Coefficient: 100ppm/°C; Power Rating: 63mW; Voltage Rating: 50V; Supplier 1: Digi-Key; Stock 1: 11406681; Pricing 1: 1=0.10000, 10=0.01500, 100=0.00600, 1000=0.00268, 2500=0.00232, 5000=0.00192 (USD); RoHS: Yes; Case/Package: 0402; Case Code (Imperial): 0402; Case Code (Metric): 1005; Min Operating Temperature: -55°C; Max Operating Temperature: 155°C; Packaging: Tape and Reel; Tolerance: 1%; Composition: Thick Film; Military Standard: Not; Termination: SMD/SMT; Length: 1mm; Height: 0.32mm; Depth: 0.5mm; Lead Free: Lead Free; REACH SVHC: Unknown; ComponentLink1URL: https://datasheet.ciiva.com/11808/0900766b80c66297-11808125.pdf?src-supplier=RSComponents; ComponentLink1Description: https://datasheet.ciiva.com/11808/0900766b80c66297-11808125.pdf?src-supplier=RSComponents; ComponentLink2URL: https://datasheet.ciiva.com/46394/1018594-46394951.pdf?src-supplier=Element14; ComponentLink2Description: https://datasheet.ciiva.com/46394/1018594-46394951.pdf?src-supplier=Element14; ComponentLink3URL: https://datasheet.ciiva.com/16741/pyu-rc0402-51-rohs-l-6-r-16741081.pdf?src-supplier=Future+Electronics; ComponentLink3Description: https://datasheet.ciiva.com/16741/pyu-rc0402-51-rohs-l-6-r-16741081.pdf?src-supplier=Future+Electronics; ComponentLink4URL: https://datasheet.ciiva.com/7849/1018594-7849882.pdf?src-supplier=Element14; ComponentLink4Description: https://datasheet.ciiva.com/7849/1018594-7849882.pdf?src-supplier=Element14; ComponentLink5URL: https://datasheet.ciiva.com/7849/1018594-7849883.pdf?src-supplier=Element14; ComponentLink5Description: https://datasheet.ciiva.com/7849/1018594-7849883.pdf?src-supplier=Element14; Supplier Part Number 1: 311-1.00MLRCT-ND; Supplier 2: Mouser; Supplier Part Number 2: 603-RC0402FR-071ML
footprint RESC0402(1005)_L (Chip Resistor, Body 1.0x0.5mm, IPC High Density)
footprint RESC0402(1005)_M (Chip Resistor, Body 1.0x0.5mm, IPC Low Density)
footprint RESC0402(1005)_N (Chip Resistor, Body 1.0x0.5mm, IPC Medium Density)
pins: 1, 2

## RC0402FR-072K2L
designator R?, comment 2.2K 0402
RES SMD 2.2K OHM 1% 1/16W 0402; Manufacturer 1: Yageo; Manufacturer Part Number 1: RC0402FR-072K2L; Resistance: 2.2kR; Temperature Coefficient: 100ppm/°C; Power Rating: 63mW; Voltage Rating: 50V; Supplier 1: Digi-Key; Stock 1: 12579098; Pricing 1: 1=0.10000, 10=0.01600, 100=0.00640, 1000=0.00289, 2500=0.00251, 5000=0.00207 (USD); RoHS: Yes; Case/Package: 0402; Weight: 2.3E-05oz; Case Code (Imperial): 0402; Case Code (Metric): 1005; Min Operating Temperature: -55°C; Max Operating Temperature: 155°C; Packaging: Tape and Reel; Tolerance: 1%; Composition: Thick Film; Termination: SMD/SMT; Military Standard: Not; Length: 1mm; Height: 0.35mm; Width: 0.5mm; Depth: 0.5mm; Lead Free: Lead Free; REACH SVHC: Unknown; ComponentLink1URL: https://datasheet.ciiva.com/11808/0900766b80c66297-11808786.pdf?src-supplier=RSComponents; ComponentLink1Description: https://datasheet.ciiva.com/11808/0900766b80c66297-11808786.pdf?src-supplier=RSComponents; ComponentLink2URL: https://datasheet.ciiva.com/12577/pyu-rc0402-51-rohs-l-6-r-12577429.pdf?src-supplier=Mouser; ComponentLink2Description: https://datasheet.ciiva.com/12577/pyu-rc0402-51-rohs-l-6-r-12577429.pdf?src-supplier=Mouser; ComponentLink3URL: https://datasheet.ciiva.com/16741/pyu-rc0402-51-rohs-l-6-r-16741015.pdf?src-supplier=Future+Electronics; ComponentLink3Description: https://datasheet.ciiva.com/16741/pyu-rc0402-51-rohs-l-6-r-16741015.pdf?src-supplier=Future+Electronics; ComponentLink4URL: https://datasheet.ciiva.com/7983/1018594-7983515.pdf?src-supplier=Element14; ComponentLink4Description: https://datasheet.ciiva.com/7983/1018594-7983515.pdf?src-supplier=Element14; ComponentLink5URL: https://datasheet.ciiva.com/46383/1018594-46383563.pdf?src-supplier=Element14; ComponentLink5Description: https://datasheet.ciiva.com/46383/1018594-46383563.pdf?src-supplier=Element14; ComponentLink6URL: https://datasheet.ciiva.com/7849/1018594-7849928.pdf?src-supplier=Element14; ComponentLink6Description: https://datasheet.ciiva.com/7849/1018594-7849928.pdf?src-supplier=Element14; ComponentLink7URL: https://datasheet.ciiva.com/7849/1018594-7849929.pdf?src-supplier=Element14; ComponentLink7Description: https://datasheet.ciiva.com/7849/1018594-7849929.pdf?src-supplier=Element14; Supplier 2: Mouser; Supplier 3: Newark; Supplier Part Number 1: 311-2.20KLRCT-ND; Supplier Part Number 2: 603-RC0402FR-072K2L; Supplier Part Number 3: 98K7523
footprint RESC0402(1005)_L (Chip Resistor, Body 1.0x0.5mm, IPC High Density)
footprint RESC0402(1005)_M (Chip Resistor, Body 1.0x0.5mm, IPC Low Density)
footprint RESC0402(1005)_N (Chip Resistor, Body 1.0x0.5mm, IPC Medium Density)
pins: 1, 2